# Altium footprint library TEXASINSTRUMENTS_PKG_D0008A.PcbLib: 1 footprints
Each footprint in its own frame and in the unit in brackets; x right, y up, seen from the top. Pads: shape width x height; smd on the part's side, far side on the other; paste and mask are expansions set on the pad; w line width, h text height; cw(c..) or ccw(c..) is an arc to the next point about the centre after c.
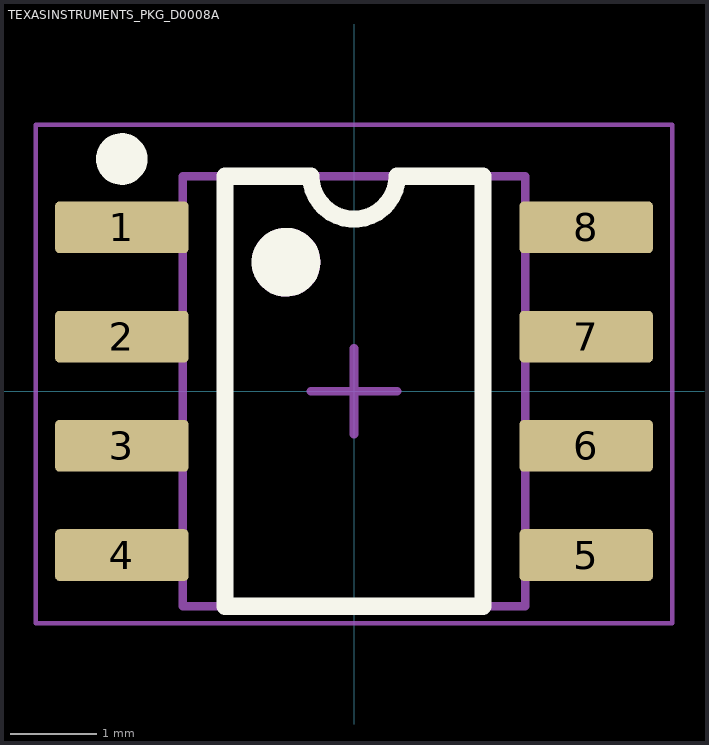
[diagram p0: the footprint, top view; thin cyan lines are the x and y axes]

## TEXASINSTRUMENTS_PKG_D0008A [mm]
height 1.75
pads (8):
  rrect16% 1.55x0.6 smd: 1(-2.7,1.905) 2(-2.7,0.635) 3(-2.7,-0.635) 4(-2.7,-1.905) 5(2.7,-1.905) 6(2.7,-0.635) 7(2.7,0.635) 8(2.7,1.905)
Top Overlay:
  circle w0.4: c-0.79,1.5 r0.2
  circle w0.3: c-2.7,2.7 r0.15
  lines w0.2: -1.5,-2.5 1.5,-2.5 1.5,2.5 0.5,2.5 cw(c0,2.5) -0.5,2.5 -1.5,2.5 -1.5,-2.5
Mechanical 13:
  circle w0.2: c-0.79,1.5 r0.3
  lines w0.1: -1.99,-2.5 1.99,-2.5 1.99,2.5 -1.99,2.5 -1.99,-2.5
Mechanical 15:
  lines w0.05: -3.7,-2.7 3.7,-2.7 3.7,3.1 -3.7,3.1 -3.7,-2.7
  lines w0.1: -0.5,0 0.5,0 ; 0,-0.5 0,0.5
3D body "TEXASINSTRUMENTS_PKG_D0008A.stp": height 1.63, standoff 0, extent -3,-2.45 3,2.45